# EAGLE library part NC7WZ00 (library 1)
Dual NAND uSOIC8
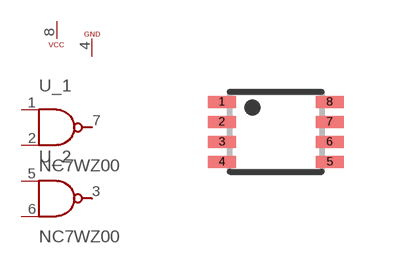
[diagram p13: symbol with the pads of US8-8_(MO-187)_CA3.1MM; footprint US8-8_(MO-187)_CA3.1MM]

Designator prefix U; gates _1=NAND _2=NAND G$3=GND G$4=VCC

## NC7WZ00  [US8-8_(MO-187)_CA3.1MM]
1  _1:A
2  _1:B
3  _2:Y
4  G$3:GND
5  _2:A
6  _2:B
7  _1:Y
8  G$4:VCC

## Footprint US8-8_(MO-187)_CA3.1MM (pad centres in mm)
smd 0.7 x 0.3: 1 -1.35,0.75; 2 -1.35,0.25; 3 -1.35,-0.25; 4 -1.35,-0.75; 5 1.35,-0.75; 6 1.35,-0.25; 7 1.35,0.25; 8 1.35,0.75